# EAGLE library part AMPHENOL_SIM (library laforge)
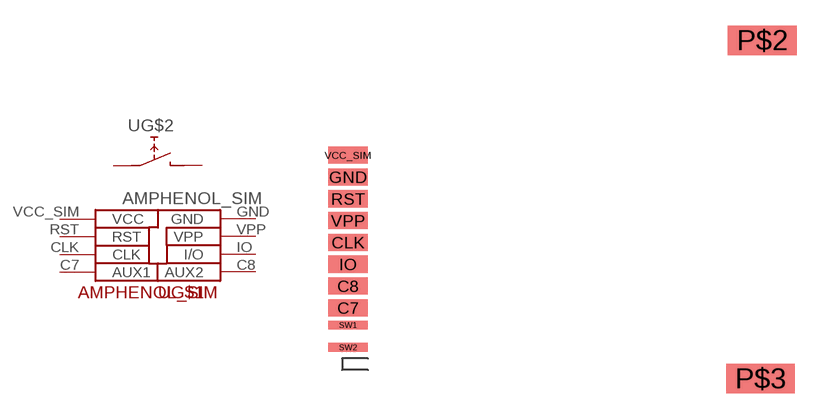
[diagram p1: symbol with the pads of AMPHENOL_SIM; footprint AMPHENOL_SIM]

Designator prefix -; gates G$1=SIM G$2=SIM_SW_NO

## AMPHENOL_SIM  [AMPHENOL_SIM]
C7  G$1:AUX1
C8  G$1:AUX2
CLK  G$1:CLK  in
GND  G$1:GND
IO  G$1:I/O
RST  G$1:RST  in
SW1  G$2:0  pas
SW2  G$2:1  pas
VCC_SIM  G$1:VCC  pwr
VPP  G$1:VPP  pwr

## Footprint AMPHENOL_SIM (pad centres in mm)
smd 2.3 x 1: C7 1.15,-8.89; C8 1.15,-7.62; CLK 1.15,-5.08; GND 1.15,-1.27; IO 1.15,-6.35; RST 1.15,-2.54; VCC_SIM 1.15,0; VPP 1.15,-3.81
smd 4 x 1.7: P$2 25.25,6.69; P$3 25.15,-13.01
smd 2.3 x 0.5: SW1 1.15,-9.89; SW2 1.15,-11.19